# EAGLE library part MX25L6406E (library Memories)
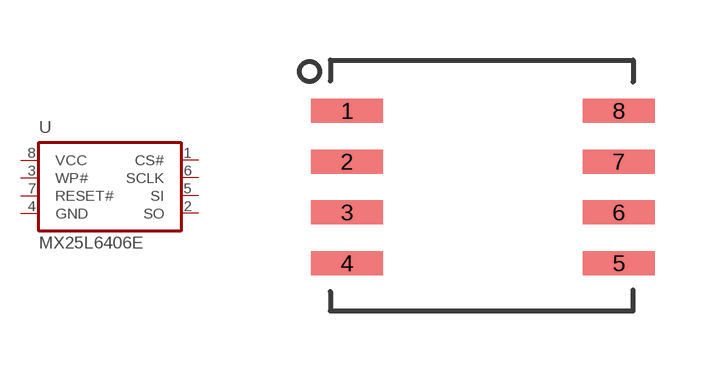
[diagram p3: symbol with the pads of SOP-8; footprint SOP-8]

Designator prefix -

## MX25L6406E  [SOP-8]
1  CS#
2  SO
3  WP#
4  GND
5  SI
6  SCLK
7  RESET#
8  VCC

## Footprint SOP-8 (pad centres in mm)
smd 1.8 x 0.6: 1 -3.4,0; 2 -3.4,-1.27; 3 -3.4,-2.54; 4 -3.4,-3.81; 5 3.4,-3.81; 6 3.4,-2.54; 7 3.4,-1.27; 8 3.4,0